# Altium schematic symbol library ME6206_SOT23-3.A1.SchLib: 1 symbol
Pins are listed as number, name and electrical type; pins without a type are passive.

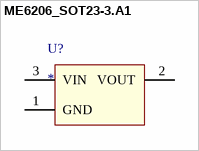
[diagram p0: symbol ME6206_SOT23-3.A1]

## ME6206_SOT23-3.A1
designator U?
pins: 1 GND, 2 VOUT, 3 VIN